# EAGLE library part LT3971 (library chiptron_cz)
LT3971-3.3V in MSOP10
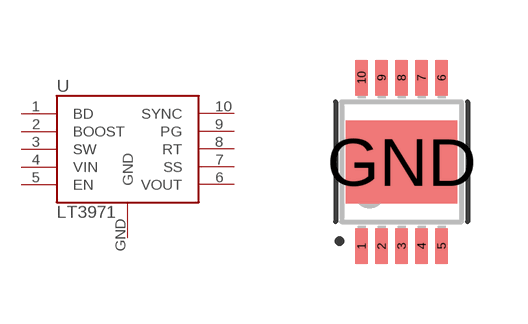
[diagram p12: symbol with the pads of MSOP10; footprint MSOP10]

Designator prefix -

## LT3971  [MSOP10]
1  BD
2  BOOST
3  SW
4  VIN
5  EN
6  VOUT
7  SS
8  RT
9  PG
10  SYNC
GND  GND

## Footprint MSOP10 (pad centres in mm)
MSOP10
smd 0.305 x 0.889: 1 -1,-2.11; 2 -0.5,-2.11; 3 0,-2.11; 4 0.5,-2.11; 5 1,-2.11; 6 1,2.11; 7 0.5,2.11; 8 0,2.11; 9 -0.5,2.11; 10 -1,2.11
smd 2.794 x 2.083: GND 0,0